# EAGLE library part MAX3207 (library M.2 SoM breakout board V1.0)
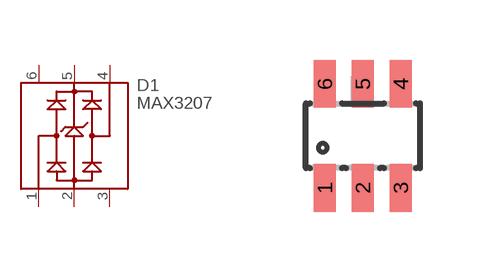
[diagram p8: symbol with the pads of SOT23-6; footprint SOT23-6]

Designator prefix D1

## MAX3207EAUT+T (DESP: TVS DIODE SOT23-6; MFG: MAXIM; MPN: MAX3207EAUT+T; PPN: PC-201321)  [SOT23-6]
1  1
2  2
3  3
4  4
5  5
6  6

## Footprint SOT23-6 (pad centres in mm)
smd 0.55 x 1.2: 1 -0.95,-1.3; 2 0,-1.3; 3 0.95,-1.3; 4 0.95,1.3; 5 0,1.3; 6 -0.95,1.3